# Altium footprint library QFN649x9.PcbLib: 1 footprints
Each footprint in its own frame and in the unit in brackets; x right, y up, seen from the top. Pads: shape width x height; smd on the part's side, far side on the other; paste and mask are expansions set on the pad; w line width, h text height; cw(c..) or ccw(c..) is an arc to the next point about the centre after c.
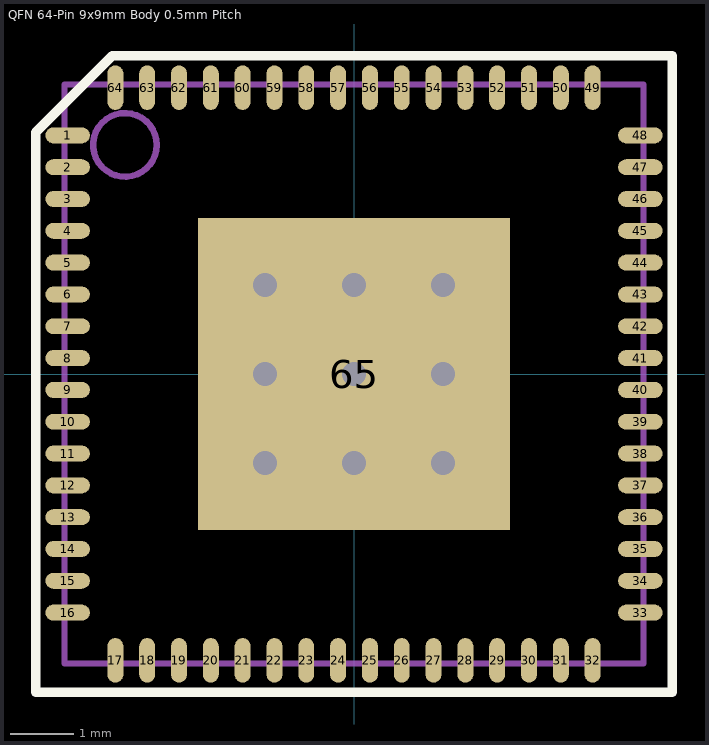
[diagram p0: the footprint, top view; thin cyan lines are the x and y axes]

## QFN 64-Pin 9x9mm Body 0.5mm Pitch [mm] "QFN, 64-Leads, Body 9x9mm, Pitch 0.50mm"
height 1
pads (65):
  oval 0.7x0.25 smd mask+0.04: 1(-4.5,3.75) 2(-4.5,3.25) 3(-4.5,2.75) 4(-4.5,2.25) 5(-4.5,1.75) 6(-4.5,1.25) 7(-4.5,0.75) 8(-4.5,0.25) 9(-4.5,-0.25) 10(-4.5,-0.75) 11(-4.5,-1.25) 12(-4.5,-1.75) 13(-4.5,-2.25) 14(-4.5,-2.75) 15(-4.5,-3.25) 16(-4.5,-3.75) 33(4.5,-3.75) 34(4.5,-3.25) 35(4.5,-2.75) 36(4.5,-2.25) 37(4.5,-1.75) 38(4.5,-1.25) 39(4.5,-0.75) 40(4.5,-0.25) 41(4.5,0.25) 42(4.5,0.75) 43(4.5,1.25) 44(4.5,1.75) 45(4.5,2.25) 46(4.5,2.75) 47(4.5,3.25) 48(4.5,3.75)
  oval 0.25x0.7 smd mask+0.04: 17(-3.75,-4.5) 18(-3.25,-4.5) 19(-2.75,-4.5) 20(-2.25,-4.5) 21(-1.75,-4.5) 22(-1.25,-4.5) 23(-0.75,-4.5) 24(-0.25,-4.5) 25(0.25,-4.5) 26(0.75,-4.5) 27(1.25,-4.5) 28(1.75,-4.5) 29(2.25,-4.5) 30(2.75,-4.5) 31(3.25,-4.5) 32(3.75,-4.5) 49(3.75,4.5) 50(3.25,4.5) 51(2.75,4.5) 52(2.25,4.5) 53(1.75,4.5) 54(1.25,4.5) 55(0.75,4.5) 56(0.25,4.5) 57(-0.25,4.5) 58(-0.75,4.5) 59(-1.25,4.5) 60(-1.75,4.5) 61(-2.25,4.5) 62(-2.75,4.5) 63(-3.25,4.5) 64(-3.75,4.5)
  rect 4.9x4.9 smd paste-1000 mask+0.04: 65(0,0)
via 1.4,0 diameter 0.61 hole 0.381
via 1.4,1.4 diameter 0.61 hole 0.381
via 0,1.4 diameter 0.61 hole 0.381
via 0,0 diameter 0.61 hole 0.381
via 1.4,-1.4 diameter 0.61 hole 0.381
via 0,-1.4 diameter 0.61 hole 0.381
via -1.4,-1.4 diameter 0.61 hole 0.381
via -1.4,0 diameter 0.61 hole 0.381
via -1.4,1.4 diameter 0.61 hole 0.381
Top Overlay:
  lines w0.152: -5,-5 -5,3.8 -3.8,5 5,5 5,-5 -5,-5
Top Paste:
  rectangle: -1.9,-1.9 -0.9,-0.9
  rectangle: 0.9,-0.5 1.9,0.5
  rectangle: 0.9,0.9 1.9,1.9
  rectangle: -0.5,0.9 0.5,1.9
  rectangle: -1.9,0.9 -0.9,1.9
  rectangle: 0.9,-1.9 1.9,-0.9
  rectangle: -0.5,-1.9 0.5,-0.9
  rectangle: -0.5,-0.5 0.5,0.5
  rectangle: -1.9,-0.5 -0.9,0.5
Mechanical 7:
  rectangle: -1.8,-1.8 1.8,1.8
Mechanical 13:
  circle w0.1: c-3.6,3.6 r0.5
  lines w0.1: -4.55,-4.55 4.55,-4.55 4.55,4.55 -4.55,4.55 -4.55,-4.55
3D body: height 1, standoff 0, extent -4.55,-4.55 4.55,4.55